# Altium schematic symbol library SCH - POWER - LINEAR VREG - TI LM317-N.SCHLIB: 1 symbol
Pins are listed as number, name and electrical type; pins without a type are passive.

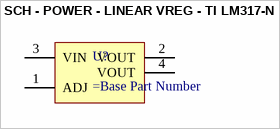
[diagram p0: symbol SCH - POWER - LINEAR VREG - TI LM317-N]

## SCH - POWER - LINEAR VREG - TI LM317-N
designator U?
pins: 1 ADJ, 2 VOUT, 3 VIN, 4 VOUT